# EAGLE library part UHS_MINI_USB_HOST (library 838_Components)
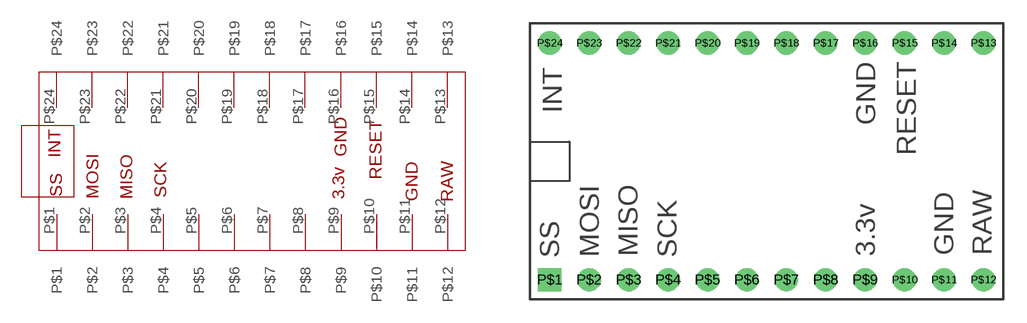
[diagram p25: symbol with the pads of UHS_MINI_USB_HOST; footprint UHS_MINI_USB_HOST]

Designator prefix -

## UHS_MINI_USB_HOST  [UHS_MINI_USB_HOST]
P$1  P$1
P$2  P$2
P$3  P$3
P$4  P$4
P$5  P$5
P$6  P$6
P$7  P$7
P$8  P$8
P$9  P$9
P$10  P$10
P$11  P$11
P$12  P$12
P$13  P$13
P$14  P$14
P$15  P$15
P$16  P$16
P$17  P$17
P$18  P$18
P$19  P$19
P$20  P$20
P$21  P$21
P$22  P$22
P$23  P$23
P$24  P$24

## Footprint UHS_MINI_USB_HOST (pad centres in mm)
drill 1 square: P$1 -15.24,-6.35
drill 1: P$2 -12.7,-6.35; P$3 -10.16,-6.35; P$4 -7.62,-6.35; P$5 -5.08,-6.35; P$6 -2.54,-6.35; P$7 0,-6.35; P$8 2.54,-6.35; P$9 5.08,-6.35; P$10 7.62,-6.35; P$11 10.16,-6.35; P$12 12.7,-6.35; P$13 12.7,8.89; P$14 10.16,8.89; P$15 7.62,8.89; P$16 5.08,8.89; P$17 2.54,8.89; P$18 0,8.89; P$19 -2.54,8.89; P$20 -5.08,8.89; P$21 -7.62,8.89; P$22 -10.16,8.89; P$23 -12.7,8.89; P$24 -15.24,8.89